# Altium schematic symbol library EDR.SchLib: 16 symbols
Pins are listed as number, name and electrical type; pins without a type are passive.

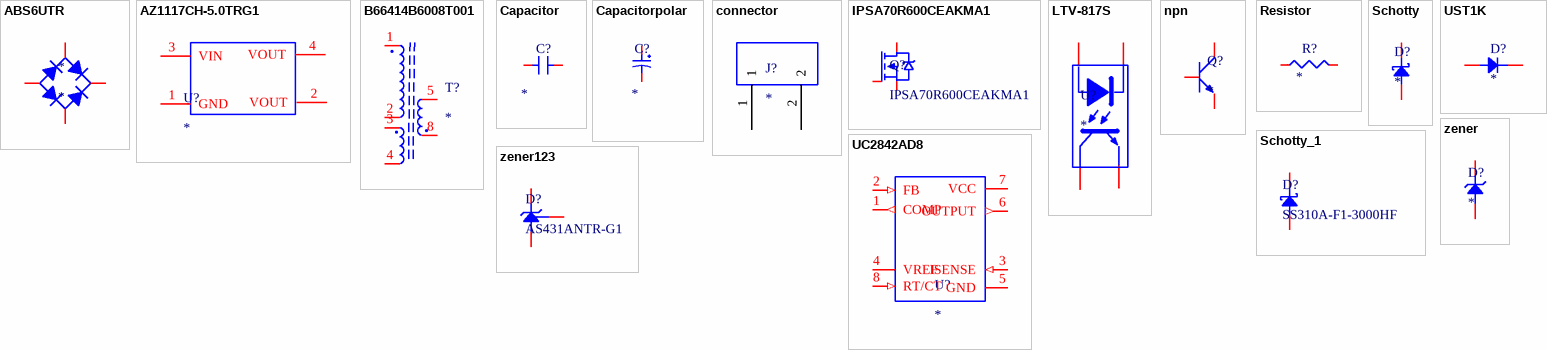
[diagram p0: symbols ABS6UTR to zener123]

## ABS6UTR
designator *
footprint ABS6
pins: 1, 2, 3, 4

## AZ1117CH-5.0TRG1
designator U?
pins: 1 GND, 2 VOUT, 3 VIN, 4 VOUT

## B66414B6008T001
designator T?
footprint B66414B6008T001
pins: 1, 2, 3, 4, 5, 8

## Capacitor
designator C?, comment 1206  (value not drawn)
Voltage: *; Capacitance: *
footprint Capacitor (1206)
footprint Capacitor -1uF (450V/1uF)
footprint capacitor 1nF
pins: 1, 2

## Capacitorpolar
designator C?
Voltage: *; Capacitance: *
footprint capacitorpolar
footprint 50v cap
footprint 50v cap
pins: 1, 2

## connector
designator J?
footprint terminal block
pins: 1, 2

## IPSA70R600CEAKMA1
designator Q?
footprint IPSA70R600CEAKMA1
pins: 1, 2, 3

## LTV-817S
designator U?
footprint SOP4
pins: 1, 2, 3, 4

## npn
designator Q?
footprint npn (BC846BLT3G)
pins: 1 base, 2 collector, 3 emitter

## Resistor
designator R?, comment 1206  (value not drawn)
Power: *; Resistance: *
footprint Resistor
footprint Resistor  10o
pins: 1, 2

## Schotty
designator D?
RB520S30YL
footprint Schotty diode 2 (RB520S30YL)
pins: 1, 2

## Schotty_1
designator D?, comment SS310A-F1-3000HF
footprint Schotty diode (SS310A-F1-3000HF)
pins: 1, 2

## UC2842AD8
designator U?
footprint UC2842AD8
pins: 1 COMP (out), 2 FB (in), 3 ISENSE (in), 4 VREF, 5 GND, 6 OUTPUT (out), 7 VCC, 8 RT/CT (in)

## UST1K
designator D?
footprint UST  1K Diode
pins: A 1, K 2

## zener
designator D?
footprint npn (BC846BLT3G)
pins: 1 cathode, 3 anode

## zener123
designator D?, comment AS431ANTR-G1
pins: 1, 2 cathode, 3 anode